# Altium schematic symbol library P BJT.SchLib: 1 symbol
Pins are listed as number, name and electrical type; pins without a type are passive.

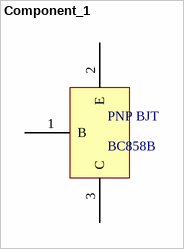
[diagram p0: symbol Component_1]

## Component_1
designator PNP BJT, comment BC858B
Bipolar Transistors - BJT Transistor 200mW
pins: 1 B, 2 E, 3 C